# Altium schematic symbol library Controller.SCHLIB: 28 symbols
Pins are listed as number, name and electrical type; pins without a type are passive.

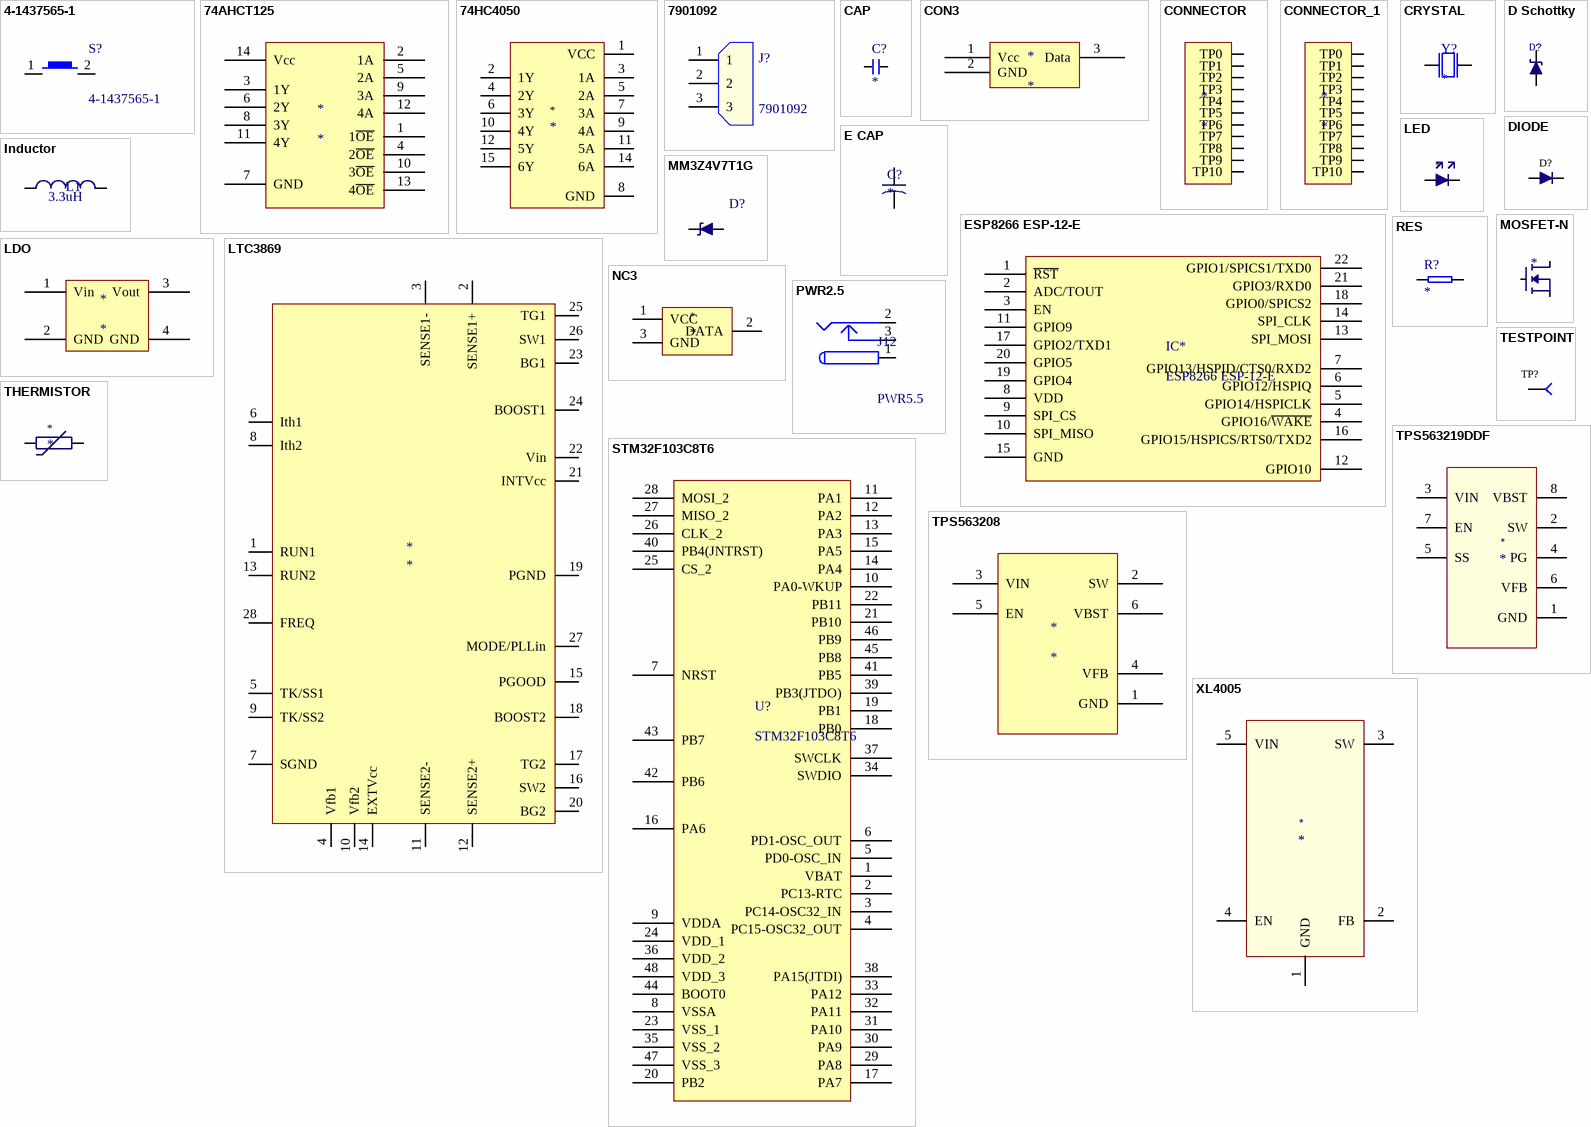
[diagram p0: symbols 4-1437565-1 to XL4005]

## 4-1437565-1
designator S?
6x6mm SMD tactile switch,5mm H 1.6N Black Button Tactile Switch, SPST-NO 0.05 A@ 12 V dc 1.4mm; Manufacturer_Name: TE Connectivity; Allied_Number: R1117787; RS Part Number: 1616046; Manufacturer_Part_Number: 4-1437565-1; Datasheet Link: http://uk.rs-online.com/web/p/products/1616046
footprint FSM-SWITCH
pins: 1, 2, 3 "TP", 4 "TP"

## 74AHCT125
designator *
Line Driver
footprint SOIC127P600X173-14N (SOIC, 14-Leads, Body 8.63x3.90mm, Pitch 1.27mm, IPC Medium Density)
pins: 1 1~{OE}, 2 1A, 3 1Y, 4 2~{OE}, 5 2A, 6 2Y, 7 GND, 8 3Y, 9 3A, 10 3~{OE}, 11 4Y, 12 4A, 13 4~{OE}, 14 Vcc

## 74HC4050
designator *
footprint SOIC127P600X175-16N (SOIC, 16-Leads, Body 9.90x3.90mm, Pitch 1.27mm, IPC Medium Density)
pins: 1 VCC "TP", 2 1Y "TP", 3 1A "TP", 4 2Y "TP", 5 2A "TP", 6 3Y "TP", 7 3A "TP", 8 GND "TP", 9 4A "TP", 10 4Y "TP", 11 5A "TP", 12 5Y "TP", 14 6A "TP", 15 6Y "TP"

## 7901092
designator J?
3 way PCB terminal block 2.54mm RS Pro 2.54mm Pitch Straight PCB Terminal Block with Screw Termination, Through Hole, 3 Way; Manufacturer_Name: RS Components; Allied_Number: 70653463; RS Part Number: 7901092; Manufacturer_Part_Number: 7901092; Datasheet Link: http://uk.rs-online.com/web/p/products/7901092
footprint 7901092
footprint 7901092
pins: 1, 2, 3

## CAP
designator C?
Capacitor; Note: *; Desc: *; Value: *
footprint CAP0402 (0402 foorprint SMT)
footprint CAP1206
footprint CAP 0603/1608 (Chip Capacitor, 2-Leads, Body 1.60x0.80mm, IPC Medium Density)
footprint CAP 1210/3225 - 2.0MM (Chip Capacitor, 2-Leads, Body 3.20x2.50mm, IPC Medium Density)
pins: 1, 2

## CON3
designator *  (no BOM)
Connector
footprint LEDCON3
pins: 1 Vcc, 2 GND, 3 Data

## CONNECTOR
designator *  (no BOM)
Debug Connector
footprint Edge Connector
pins: 1 TP0, 2 TP1, 3 TP2, 4 TP3, 5 TP4, 6 TP5, 7 TP6, 8 TP7, 9 TP8, 10 TP9, 11 TP10

## CONNECTOR_1
designator *  (no BOM)
Debug Connector
footprint Edge Connector
pins: 1 TP0, 2 TP1, 3 TP2, 4 TP3, 5 TP4, 6 TP5, 7 TP6, 8 TP7, 9 TP8, 10 TP9, 11 TP10

## CRYSTAL
designator Y?
Cheapo SMT Crystal; Value: *
footprint CRYSTAL (Crystal, 2-Leads, Body 4.70x11.40mm, Pitch 8.80mm, IPC Medium Density)
pins: 1, 2

## D Schottky
designator D?  (value not drawn)
pins: 1 (power), 2 (power)

## DIODE
designator D?  (value not drawn)
footprint SOD2512X110N
pins: 1 C "TP", 2 A "TP"

## E CAP
designator C?
Value: *
pins: 1 0, 2 1

## ESP8266 ESP-12-E
designator IC*
footprint ESP8266 ESP-12-E
pins: 1 ~{RST} "Reset", 2 ADC/TOUT "ADC Input Or TOUT Output", 3 EN "Chip enable", 4 GPIO16/~{WAKE} "GPIO16 or Deep-Sleep Wakeup", 5 GPIO14/HSPICLK "GPIO14 or SPI CLK", 6 GPIO12/HSPIQ "GPIO12 or SPIQ", 7 GPIO13/HSPID/CTS0/RXD2 "GPIO13 or SPID", 8 VDD "Power supply", 9 SPI_CS "GPIO14 or SPI CLK", 10 SPI_MISO "GPIO12 or SPIQ", 11 GPIO9 "GPIO13 or SPID", 12 GPIO10 "GPIO15 or SPICS", 13 SPI_MOSI "GPIO2 or TX", 14 SPI_CLK "GPIO0 or SPICS2", 15 GND "Power ground", 16 GPIO15/HSPICS/RTS0/TXD2 "GPIO15 or SPICS", 17 GPIO2/TXD1 "GPIO2 or TX", 18 GPIO0/SPICS2 "GPIO0 or SPICS2", 19 GPIO4 "GPIO5", 20 GPIO5 "GPIO4", 21 GPIO3/RXD0 "GPIO3 or UART RXD", 22 GPIO1/SPICS1/TXD0 "GPIO1 or UART TXD"

## Inductor
designator L1  value 3.3uH  (hidden comment: Inductor)
Code_IEC: 1005; Published: 8-Jun-2000; LatestRevisionDate: 29-May-2009; LatestRevisionNote: IPC-7351 Footprint Added.; PackageReference: 0402-A; Publisher: Altium Limited; PackageDescription: Chip Inductor; Code_JEITA: 0402
footprint INDUCTOR PCC-M0530M3R3KVP
pins: 1, 2

## LDO
designator *
LDO Voltage Regulator
footprint SOT230P700X180-4N (SOT223, 4-Leads, Body 6.50x7.00mm (avg), Pitch 2.30mm, IPC Medium Density)
pins: 1 Vin, 2 GND, 3 Vout, 4 GND

## LED
designator *  (value not drawn)
footprint Chip2PinSM127P600-8N (SMT LED)
pins: 1 CATHODE "TP", 2 ANODE "TP"

## LTC3869
designator *
pins: 1 RUN1, 2 SENSE1+, 3 SENSE1-, 4 Vfb1, 5 TK/SS1, 6 Ith1, 7 SGND, 8 Ith2, 9 TK/SS2, 10 Vfb2, 11 SENSE2-, 12 SENSE2+, 13 RUN2, 14 EXTVcc, 15 PGOOD, 16 SW2, 17 TG2, 18 BOOST2, 19 PGND, 20 BG2, 21 INTVcc, 22 Vin, 23 BG1, 24 BOOST1, 25 TG1, 26 SW1, 27 MODE/PLLin, 28 FREQ

## MM3Z4V7T1G
designator D?  (value not drawn)
300 mW 4.7 V 5% ZenerDiodeVoltage Regulator; Manufacturer_Name: ON Semiconductor; Allied_Number: 70100611; Geometry.Height: 1.1mm; RS Part Number: 7930715P; Manufacturer_Part_Number: MM3Z4V7T1G; Datasheet Link: http://uk.rs-online.com/web/p/products/7930715P; Value: *
footprint SOD2512X110N
pins: 1 K, 2 A

## MOSFET-N
designator *  (value not drawn)
footprint INF-PG-TDSON-8-1_V (TDSON, 8-Leads, Body 6.15x5.15mm, Pitch 1.27mm)
pins: 1 S, 2 S, 3 S, 4 G, 5 D, 6 D, 7 D, 8

## NC3
designator *
pins: 1 VCC "TP", 2 DATA "TP", 3 GND "TP"

## PWR2.5
designator J12, comment PWR5.5
Low Voltage Power Supply Connector; Published: 17-Dec-2003; DatasheetDocument: 09-May-2002; Publisher: Altium Limited; ComponentLink1Description: Manufacturer Link; ComponentLink1URL: http://domino.kycon.com/internet/Products.html
footprint DC_CON
pins: 1 (power), 2, 3

## RES
designator R?
Resistor; Value: *; Note: *; Desc: *
footprint RES 0603/1608 (Chip Resistor, 2-Leads, Body 1.60x0.80mm, IPC Medium Density)
pins: 1, 2

## STM32F103C8T6
designator U?
Medium-density performance line ARM-based 32-bit MCU with 64 or 128 KB Flash, USB, CAN, 7 timers, 2 ADCs, 9 com. interfaces
footprint CQFP50P900X900X160-48N (CQFP, 48-Leads, Body 9.00x9.00mm, Pitch 0.50mm, IPC Medium Density)
pins: 1 VBAT, 2 PC13-RTC, 3 PC14-OSC32_IN, 4 PC15-OSC32_OUT, 5 PD0-OSC_IN, 6 PD1-OSC_OUT, 7 NRST, 8 VSSA, 9 VDDA, 10 PA0-WKUP, 11 PA1, 12 PA2, 13 PA3, 14 PA4, 15 PA5, 16 PA6, 17 PA7, 18 PB0, 19 PB1, 20 PB2, 21 PB10, 22 PB11, 23 VSS_1, 24 VDD_1, 25 CS_2, 26 CLK_2, 27 MISO_2, 28 MOSI_2, 29 PA8, 30 PA9, 31 PA10, 32 PA11, 33 PA12, 34 SWDIO, 35 VSS_2, 36 VDD_2, 37 SWCLK, 38 PA15(JTDI), 39 PB3(JTDO), 40 PB4(JNTRST), 41 PB5, 42 PB6, 43 PB7, 44 BOOT0, 45 PB8, 46 PB9, 47 VSS_3, 48 VDD_3

## TESTPOINT
designator TP?  (value not drawn)  (no BOM)
footprint TESTPOINT
pins: 1 "TP"

## THERMISTOR
designator *
Value: *
footprint THERMISTOR
pins: 1 A "TP", 2 A "TP"

## TPS563208
designator *
Buck Regulator
footprint SOT23-6 (SOT143-4 as used in SP0503BAHTG)
pins: 1 GND, 2 SW, 3 VIN, 4 VFB, 5 EN, 6 VBST

## TPS563219DDF
designator *
pins: 1 GND (power), 2 SW (power), 3 VIN (power), 4 PG (power), 5 SS (power), 6 VFB (power), 7 EN (power), 8 VBST (power)

## XL4005
designator *
Buck Regulator
pins: 1 GND (power), 2 FB (power), 3 SW (power), 4 EN (power), 5 VIN (power)